# Altium footprint library SOT65P210X110-6N.PcbLib: 1 footprints
Each footprint in its own frame and in the unit in brackets; x right, y up, seen from the top. Pads: shape width x height; smd on the part's side, far side on the other; paste and mask are expansions set on the pad; w line width, h text height; cw(c..) or ccw(c..) is an arc to the next point about the centre after c.
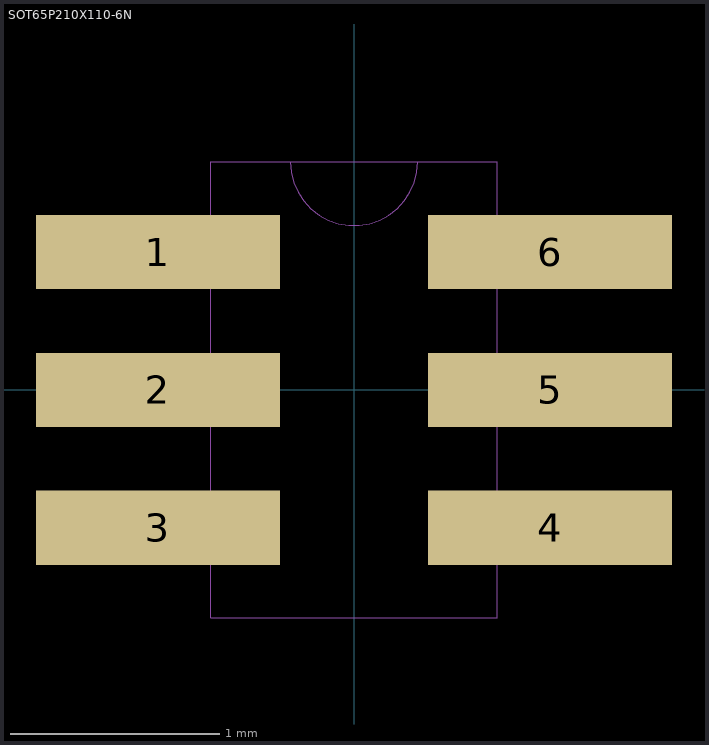
[diagram p0: the footprint, top view; thin cyan lines are the x and y axes]

## SOT65P210X110-6N [mil]
pads (6):
  rect 46x14 smd: 1(-37,26) 2(-37,0) 3(-37,-26) 4(37,-26) 5(37,0) 6(37,26)
Mechanical 13:
  lines w0: -27,-31 -27,-20 ; -27,-31 -27,-43 27,-43 27,-31 ; -27,-31 -43,-31 -43,-20 -27,-20 ; -27,-20 -27,-6 ; -27,-6 -27,6 ; -27,-6 -43,-6 -43,6 -27,6 ; -27,6 -27,20 ; -27,20 -27,31 ; -27,20 -43,20 -43,31 -27,31 ; -27,31 -27,43 -12,43 ; -12,43 ccw(c0,43) 12,43 ; -12,43 12,43 ; 12,43 27,43 27,31 ; 27,-31 27,-20 ; 27,-31 43,-31 43,-20 27,-20 ; 27,-20 27,-6 ; 27,-6 27,6 ; 27,-6 43,-6 43,6 27,6 ; 27,6 27,20 ; 27,20 27,31 ; 27,20 43,20 43,31 27,31